# EAGLE library part XBEE (library ecad)
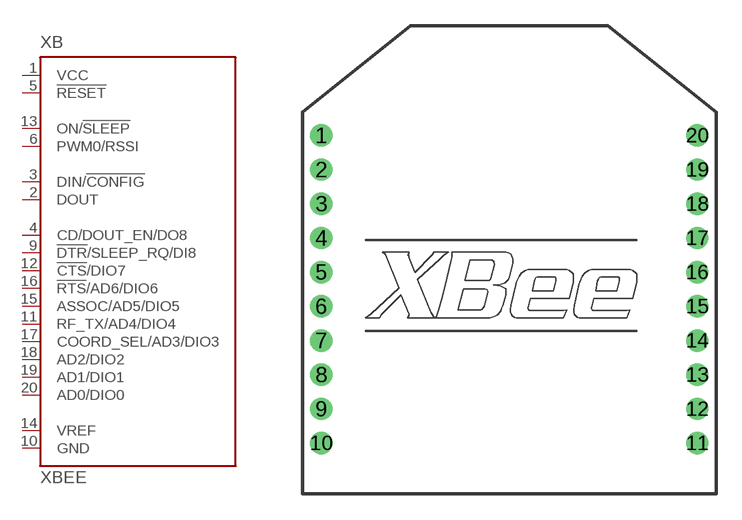
[diagram p0: symbol with the pads of XBEE; footprint XBEE]

Designator prefix XB

## XBEE (MPN: XBP24-Z7UIT-004; OC_FARNELL: 1751799; OC_NEWARK: 34R5507)  [XBEE]
1  VCC  pas
2  DOUT  pas
3  DIN/!CONFIG  pas
4  CD/DOUT_EN/DO8  pas
5  !RESET  pas
6  PWM0/RSSI  pas
9  !DTR!/SLEEP_RQ/DI8  pas
10  GND  pas
11  RF_TX/AD4/DIO4  pas
12  !CTS!/DIO7  pas
13  ON/!SLEEP  pas
14  VREF  pas
15  ASSOC/AD5/DIO5  pas
16  !RTS!/AD6/DIO6  pas
17  COORD_SEL/AD3/DIO3  pas
18  AD2/DIO2  pas
19  AD1/DIO1  pas
20  AD0/DIO0  pas

## Footprint XBEE (pad centres in mm)
XBEE Source: http://www.maxstream.net/products/xbee/datasheet_XBee_OEM_RF-Modules.pdf
drill 0.8 pad 1.27: 1 -11,9; 2 -11,7; 3 -11,5; 4 -11,3; 5 -11,1; 6 -11,-1; 7 -11,-3; 8 -11,-5; 9 -11,-7; 10 -11,-9; 11 11,-9; 12 11,-7; 13 11,-5; 14 11,-3; 15 11,-1; 16 11,1; 17 11,3; 18 11,5; 19 11,7; 20 11,9